# Altium schematic symbol library Miscellaneous_old.SchLib: 4 symbols
Pins are listed as number, name and electrical type; pins without a type are passive.

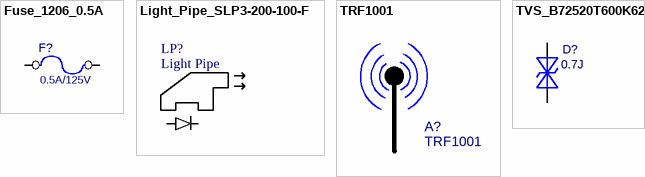
[diagram p0: symbols Fuse_1206_0.5A to TVS_B72520T600K62]

## Fuse_1206_0.5A
designator F?, comment 0.5A/125V
Fuse, SMD, 0.5A, 63VDC, 125VAC, 1206; Manufacturer: Bel Fuse Inc; Manufacturer Part Number: C1F 500; Supplier 1: Digi-Key; Supplier Part Number 1: 507-1876-1-ND
footprint Fuse_1206
pins: 1, 2

## Light_Pipe_SLP3-200-100-F
designator LP?, comment Light Pipe
Light Pipe, SMD, RA, 3MM; Manufacturer: Bivar Inc; Manufacturer Part Number: SLP3-200-100-F; Supplier 1: Digi-Key; Supplier Part Number 1: 492-1865-ND

## TRF1001
designator A?
Antenna, 2.4GHz, 150mm cable; Manufacturer: Microchip Technology; Manufacturer Part Number: TRF1001; Supplier Part Number 1: TRF1001-ND; Supplier 1: Digi-Key

## TVS_B72520T600K62
designator D?, comment 0.7J
TVS, SMD, 60VAC, 85VDC, 0.7J, 1206; Manufacturer: TDK; Manufacturer Part Number: B72520T600K62; Supplier Part Number 1: 495-7103-1-ND; Supplier 1: Digi-Key; Package: 1206 3.2mm x 1.6mm
footprint TVS_1206_2.1MM
pins: 1, 2